# Altium footprint library TQFP_PFB.PcbLib: 3 footprints
Each footprint in its own frame and in the unit in brackets; x right, y up, seen from the top. Pads: shape width x height; smd on the part's side, far side on the other; paste and mask are expansions set on the pad; w line width, h text height; cw(c..) or ccw(c..) is an arc to the next point about the centre after c.
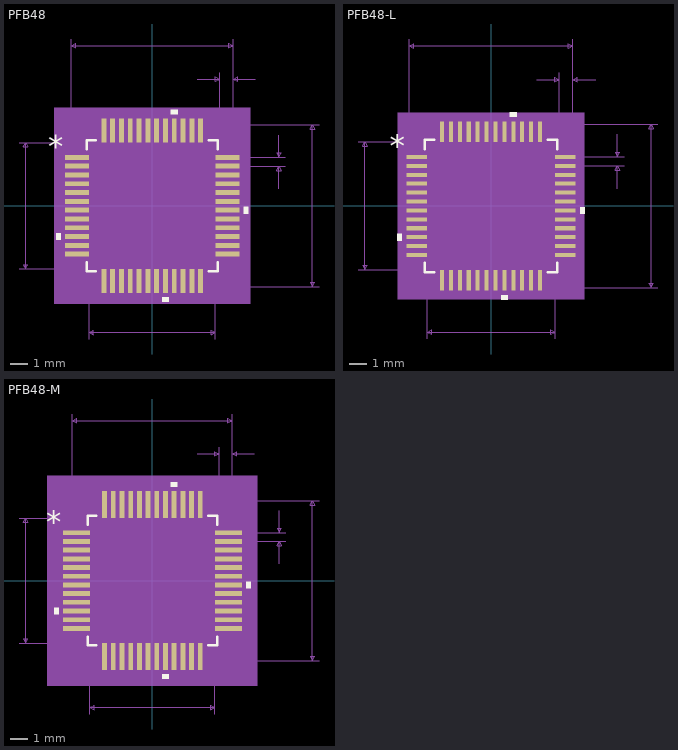
[diagram p0: the footprints below, top view; thin cyan lines are the x and y axes]

## PFB48 [mm]
pads (48):
  rect 1.353x0.279 smd paste+0 mask+0: 1(-4.271,2.75) 2(-4.271,2.25) 3(-4.271,1.75) 4(-4.271,1.25) 5(-4.271,0.75) 6(-4.271,0.25) 7(-4.271,-0.25) 8(-4.271,-0.75) 9(-4.271,-1.25) 10(-4.271,-1.75) 11(-4.271,-2.25) 12(-4.271,-2.75) 25(4.271,-2.75) 26(4.271,-2.25) 27(4.271,-1.75) 28(4.271,-1.25) 29(4.271,-0.75) 30(4.271,-0.25) 31(4.271,0.25) 32(4.271,0.75) 33(4.271,1.25) 34(4.271,1.75) 35(4.271,2.25) 36(4.271,2.75)
  rect 0.279x1.353 smd paste+0 mask+0: 13(-2.75,-4.271) 14(-2.25,-4.271) 15(-1.75,-4.271) 16(-1.25,-4.271) 17(-0.75,-4.271) 18(-0.25,-4.271) 19(0.25,-4.271) 20(0.75,-4.271) 21(1.25,-4.271) 22(1.75,-4.271) 23(2.25,-4.271) 24(2.75,-4.271) 37(2.75,4.271) 38(2.25,4.271) 39(1.75,4.271) 40(1.25,4.271) 41(0.75,4.271) 42(0.25,4.271) 43(-0.25,4.271) 44(-0.75,4.271) 45(-1.25,4.271) 46(-1.75,4.271) 47(-2.25,4.271) 48(-2.75,4.271)
Top Overlay:
  region: -5.201,-1.559 -5.455,-1.559 -5.455,-1.94 -5.201,-1.94
  region: 0.941,-5.201 0.56,-5.201 0.56,-5.455 0.941,-5.455
  region: 5.201,-0.059 5.455,-0.059 5.455,-0.44 5.201,-0.44
  region: 1.441,5.201 1.06,5.201 1.06,5.455 1.441,5.455
  lines w0.152: -3.721,-3.222 -3.721,-3.721 -3.222,-3.721 ; -3.721,3.222 -3.721,3.721 -3.222,3.721 ; 3.222,-3.721 3.721,-3.721 3.721,-3.222 ; 3.222,3.721 3.721,3.721 3.721,3.222
  text "*" at -5.9,2.746 h1.27
Mechanical 5:
  region: 5.582,-5.582 -5.582,-5.582 -5.582,5.582 5.582,5.582
Mechanical 7:
  lines w0.025: -7.573,-3.594 -2.75,-3.594 ; -7.573,3.594 -2.75,3.594 ; -4.597,2.75 -4.597,9.478 ; -3.594,-7.573 -3.594,-2.75 ; 2.565,7.192 3.835,7.192 ; 2.75,-4.597 9.478,-4.597 ; 2.75,4.597 9.478,4.597 ; 3.594,-7.573 3.594,-2.75 ; 3.835,2.75 3.835,7.573 ; 4.271,2.25 7.573,2.25 ; 4.271,2.75 7.573,2.75 ; 4.597,7.573 4.597,2.75 4.597,9.478 ; 5.867,7.192 4.597,7.192 ; 7.192,0.98 7.192,2.25 ; 7.192,4.02 7.192,2.75 ; -7.192,-3.594 -7.192,3.594 ; -7.192,-3.594 -7.319,-3.34 -7.065,-3.34 -7.192,-3.594 ; -7.192,3.594 -7.319,3.34 -7.065,3.34 -7.192,3.594 ; -4.597,9.097 4.597,9.097 ; -4.597,9.097 -4.343,9.224 -4.343,8.97 -4.597,9.097 ; -3.594,-7.192 3.594,-7.192 ; -3.594,-7.192 -3.34,-7.065 -3.34,-7.319 -3.594,-7.192 ; 3.594,-7.192 3.34,-7.065 3.34,-7.319 3.594,-7.192 ; 3.835,7.192 3.581,7.319 3.581,7.065 3.835,7.192 ; 4.597,7.192 4.851,7.319 4.851,7.065 4.597,7.192 ; 4.597,9.097 4.343,9.224 4.343,8.97 4.597,9.097 ; 7.192,2.25 7.065,1.996 7.319,1.996 7.192,2.25 ; 7.192,2.75 7.065,3.004 7.319,3.004 7.192,2.75 ; 9.097,-4.597 9.097,4.597 ; 9.097,-4.597 8.97,-4.343 9.224,-4.343 9.097,-4.597 ; 9.097,4.597 8.97,4.343 9.224,4.343 9.097,4.597
  text "Default Horiz Padstyle: r28_135" at -9.842,-11.002 h1.27
  text "Default Vert Padstyle: r28_135" at -9.525,-12.526 h1.27
  text "Alt 1 Padstyle: b152_229h76" at -8.572,-17.098 h1.27
  text "Alt 2 Padstyle: b229_152h76" at -8.572,-18.622 h1.27
  text "0.02in/0.5mm" at 7.7,2.183 h0.64
  text "0.03in/0.762mm" at 1.994,7.7 h0.64
  text "0.362in/9.195mm" at -2.381,9.605 h0.64
  text "0.283in/7.188mm" at -2.381,-8.335 h0.64
  text "0.283in/7.188mm" at -12.462,-0.318 h0.64
  text "0.362in/9.195mm" at 9.605,-0.318 h0.64
Mechanical 13:
  drawing of 197 lines, arcs and shapes, not listed
  text "*" at -3.531,2.365 h1.27
Mechanical 15:
  region: -3.144,-3.848 -3.848,-3.848 -3.848,-3.144 -5.201,-3.144 -5.201,3.144 -3.848,3.144 -3.848,3.848 -3.144,3.848 -3.144,5.201 3.144,5.201 3.144,3.848 3.848,3.848 3.848,3.144 5.201,3.144 5.201,-3.144 3.848,-3.144 3.848,-3.848 3.144,-3.848 3.144,-5.201 -3.144,-5.201
  lines w0.152: -5.201,-3.144 -3.848,-3.144 -3.848,-3.848 -3.144,-3.848 -3.144,-5.201 3.144,-5.201 3.144,-3.848 3.848,-3.848 3.848,-3.144 5.201,-3.144 5.201,3.144 3.848,3.144 3.848,3.848 3.144,3.848 3.144,5.201 -3.144,5.201 -3.144,3.848 -3.848,3.848 -3.848,3.144 -5.201,3.144 -5.201,-3.144
3D body "TQFP_PFB48A.stp": height 1.04, standoff -0.03, extent -4.5,-4.5 4.5,4.5

## PFB48-L [mm]
pads (48):
  rect 1.153x0.229 smd paste+0 mask+0: 1(-4.171,2.75) 2(-4.171,2.25) 3(-4.171,1.75) 4(-4.171,1.25) 5(-4.171,0.75) 6(-4.171,0.25) 7(-4.171,-0.25) 8(-4.171,-0.75) 9(-4.171,-1.25) 10(-4.171,-1.75) 11(-4.171,-2.25) 12(-4.171,-2.75) 25(4.171,-2.75) 26(4.171,-2.25) 27(4.171,-1.75) 28(4.171,-1.25) 29(4.171,-0.75) 30(4.171,-0.25) 31(4.171,0.25) 32(4.171,0.75) 33(4.171,1.25) 34(4.171,1.75) 35(4.171,2.25) 36(4.171,2.75)
  rect 0.229x1.153 smd paste+0 mask+0: 13(-2.75,-4.171) 14(-2.25,-4.171) 15(-1.75,-4.171) 16(-1.25,-4.171) 17(-0.75,-4.171) 18(-0.25,-4.171) 19(0.25,-4.171) 20(0.75,-4.171) 21(1.25,-4.171) 22(1.75,-4.171) 23(2.25,-4.171) 24(2.75,-4.171) 37(2.75,4.171) 38(2.25,4.171) 39(1.75,4.171) 40(1.25,4.171) 41(0.75,4.171) 42(0.25,4.171) 43(-0.25,4.171) 44(-0.75,4.171) 45(-1.25,4.171) 46(-1.75,4.171) 47(-2.25,4.171) 48(-2.75,4.171)
Top Overlay:
  region: -5.001,-1.559 -5.255,-1.559 -5.255,-1.94 -5.001,-1.94
  region: 0.941,-5.001 0.56,-5.001 0.56,-5.255 0.941,-5.255
  region: 5.001,-0.059 5.255,-0.059 5.255,-0.44 5.001,-0.44
  region: 1.441,5.001 1.06,5.001 1.06,5.255 1.441,5.255
  lines w0.152: -3.721,-3.197 -3.721,-3.721 -3.197,-3.721 ; -3.721,3.197 -3.721,3.721 -3.197,3.721 ; 3.197,-3.721 3.721,-3.721 3.721,-3.197 ; 3.197,3.721 3.721,3.721 3.721,3.197
  text "*" at -5.7,2.746 h1.27
Mechanical 5:
  region: 5.23,-5.23 -5.23,-5.23 -5.23,5.23 5.23,5.23
Mechanical 7:
  lines w0.025: -7.473,-3.594 -2.75,-3.594 ; -7.473,3.594 -2.75,3.594 ; -4.597,2.75 -4.597,9.378 ; -3.594,-7.473 -3.594,-2.75 ; 2.565,7.092 3.835,7.092 ; 2.75,-4.597 9.378,-4.597 ; 2.75,4.597 9.378,4.597 ; 3.594,-7.473 3.594,-2.75 ; 3.835,2.75 3.835,7.473 ; 4.171,2.25 7.473,2.25 ; 4.171,2.75 7.473,2.75 ; 4.597,7.473 4.597,2.75 4.597,9.378 ; 5.867,7.092 4.597,7.092 ; 7.092,0.98 7.092,2.25 ; 7.092,4.02 7.092,2.75 ; -7.092,-3.594 -7.092,3.594 ; -7.092,-3.594 -7.219,-3.34 -6.965,-3.34 -7.092,-3.594 ; -7.092,3.594 -7.219,3.34 -6.965,3.34 -7.092,3.594 ; -4.597,8.997 4.597,8.997 ; -4.597,8.997 -4.343,9.124 -4.343,8.87 -4.597,8.997 ; -3.594,-7.092 3.594,-7.092 ; -3.594,-7.092 -3.34,-6.965 -3.34,-7.219 -3.594,-7.092 ; 3.594,-7.092 3.34,-6.965 3.34,-7.219 3.594,-7.092 ; 3.835,7.092 3.581,7.219 3.581,6.965 3.835,7.092 ; 4.597,7.092 4.851,7.219 4.851,6.965 4.597,7.092 ; 4.597,8.997 4.343,9.124 4.343,8.87 4.597,8.997 ; 7.092,2.25 6.965,1.996 7.219,1.996 7.092,2.25 ; 7.092,2.75 6.965,3.004 7.219,3.004 7.092,2.75 ; 8.997,-4.597 8.997,4.597 ; 8.997,-4.597 8.87,-4.343 9.124,-4.343 8.997,-4.597 ; 8.997,4.597 8.87,4.343 9.124,4.343 8.997,4.597
  text "Default Horiz Padstyle: r23_115" at -9.842,-10.902 h1.27
  text "Default Vert Padstyle: r23_115" at -9.525,-12.426 h1.27
  text "Alt 1 Padstyle: b152_229h76" at -8.572,-16.998 h1.27
  text "Alt 2 Padstyle: b229_152h76" at -8.572,-18.522 h1.27
  text "0.02in/0.5mm" at 7.6,2.183 h0.64
  text "0.03in/0.762mm" at 1.994,7.6 h0.64
  text "0.362in/9.195mm" at -2.381,9.505 h0.64
  text "0.283in/7.188mm" at -2.381,-8.235 h0.64
  text "0.283in/7.188mm" at -12.362,-0.318 h0.64
  text "0.362in/9.195mm" at 9.505,-0.318 h0.64
Mechanical 13:
  drawing of 197 lines, arcs and shapes, not listed
  text "*" at -3.531,2.365 h1.27
Mechanical 15:
  region: -2.966,-3.696 -3.696,-3.696 -3.696,-2.966 -4.849,-2.966 -4.849,2.966 -3.696,2.966 -3.696,3.696 -2.966,3.696 -2.966,4.849 2.966,4.849 2.966,3.696 3.696,3.696 3.696,2.966 4.849,2.966 4.849,-2.966 3.696,-2.966 3.696,-3.696 2.966,-3.696 2.966,-4.849 -2.966,-4.849
  lines w0.152: -4.849,-2.966 -3.696,-2.966 -3.696,-3.696 -2.966,-3.696 -2.966,-4.849 2.966,-4.849 2.966,-3.696 3.696,-3.696 3.696,-2.966 4.849,-2.966 4.849,2.966 3.696,2.966 3.696,3.696 2.966,3.696 2.966,4.849 -2.966,4.849 -2.966,3.696 -3.696,3.696 -3.696,2.966 -4.849,2.966 -4.849,-2.966
3D body: height 0.25, standoff 0, extent 0,0 0.254,0.254
3D body "TQFP_PFB48A.stp": height 1.04, standoff -0.03, extent -4.5,-4.5 4.5,4.5

## PFB48-M [mm]
pads (48):
  rect 1.553x0.279 smd paste+0 mask+0: 1(-4.371,2.75) 2(-4.371,2.25) 3(-4.371,1.75) 4(-4.371,1.25) 5(-4.371,0.75) 6(-4.371,0.25) 7(-4.371,-0.25) 8(-4.371,-0.75) 9(-4.371,-1.25) 10(-4.371,-1.75) 11(-4.371,-2.25) 12(-4.371,-2.75) 25(4.371,-2.75) 26(4.371,-2.25) 27(4.371,-1.75) 28(4.371,-1.25) 29(4.371,-0.75) 30(4.371,-0.25) 31(4.371,0.25) 32(4.371,0.75) 33(4.371,1.25) 34(4.371,1.75) 35(4.371,2.25) 36(4.371,2.75)
  rect 0.279x1.553 smd paste+0 mask+0: 13(-2.75,-4.371) 14(-2.25,-4.371) 15(-1.75,-4.371) 16(-1.25,-4.371) 17(-0.75,-4.371) 18(-0.25,-4.371) 19(0.25,-4.371) 20(0.75,-4.371) 21(1.25,-4.371) 22(1.75,-4.371) 23(2.25,-4.371) 24(2.75,-4.371) 37(2.75,4.371) 38(2.25,4.371) 39(1.75,4.371) 40(1.25,4.371) 41(0.75,4.371) 42(0.25,4.371) 43(-0.25,4.371) 44(-0.75,4.371) 45(-1.25,4.371) 46(-1.75,4.371) 47(-2.25,4.371) 48(-2.75,4.371)
Top Overlay:
  region: -5.401,-1.559 -5.655,-1.559 -5.655,-1.94 -5.401,-1.94
  region: 0.941,-5.401 0.56,-5.401 0.56,-5.655 0.941,-5.655
  region: 5.401,-0.059 5.655,-0.059 5.655,-0.44 5.401,-0.44
  region: 1.441,5.401 1.06,5.401 1.06,5.655 1.441,5.655
  lines w0.152: -3.721,-3.222 -3.721,-3.721 -3.222,-3.721 ; -3.721,3.222 -3.721,3.721 -3.222,3.721 ; 3.222,-3.721 3.721,-3.721 3.721,-3.222 ; 3.222,3.721 3.721,3.721 3.721,3.222
  text "*" at -6.1,2.746 h1.27
Mechanical 5:
  region: 6.036,-6.036 -6.036,-6.036 -6.036,6.036 6.036,6.036
Mechanical 7:
  lines w0.025: -7.673,-3.594 -2.75,-3.594 ; -7.673,3.594 -2.75,3.594 ; -4.597,2.75 -4.597,9.578 ; -3.594,-7.673 -3.594,-2.75 ; 2.565,7.292 3.835,7.292 ; 2.75,-4.597 9.578,-4.597 ; 2.75,4.597 9.578,4.597 ; 3.594,-7.673 3.594,-2.75 ; 3.835,2.75 3.835,7.673 ; 4.371,2.25 7.673,2.25 ; 4.371,2.75 7.673,2.75 ; 4.597,7.673 4.597,2.75 4.597,9.578 ; 5.867,7.292 4.597,7.292 ; 7.292,0.98 7.292,2.25 ; 7.292,4.02 7.292,2.75 ; -7.292,-3.594 -7.292,3.594 ; -7.292,-3.594 -7.419,-3.34 -7.165,-3.34 -7.292,-3.594 ; -7.292,3.594 -7.419,3.34 -7.165,3.34 -7.292,3.594 ; -4.597,9.197 4.597,9.197 ; -4.597,9.197 -4.343,9.324 -4.343,9.07 -4.597,9.197 ; -3.594,-7.292 3.594,-7.292 ; -3.594,-7.292 -3.34,-7.165 -3.34,-7.419 -3.594,-7.292 ; 3.594,-7.292 3.34,-7.165 3.34,-7.419 3.594,-7.292 ; 3.835,7.292 3.581,7.419 3.581,7.165 3.835,7.292 ; 4.597,7.292 4.851,7.419 4.851,7.165 4.597,7.292 ; 4.597,9.197 4.343,9.324 4.343,9.07 4.597,9.197 ; 7.292,2.25 7.165,1.996 7.419,1.996 7.292,2.25 ; 7.292,2.75 7.165,3.004 7.419,3.004 7.292,2.75 ; 9.197,-4.597 9.197,4.597 ; 9.197,-4.597 9.07,-4.343 9.324,-4.343 9.197,-4.597 ; 9.197,4.597 9.07,4.343 9.324,4.343 9.197,4.597
  text "Default Horiz Padstyle: r28_155" at -9.842,-11.102 h1.27
  text "Default Vert Padstyle: r28_155" at -9.525,-12.626 h1.27
  text "Alt 1 Padstyle: b152_229h76" at -8.572,-17.198 h1.27
  text "Alt 2 Padstyle: b229_152h76" at -8.572,-18.722 h1.27
  text "0.02in/0.5mm" at 7.8,2.183 h0.64
  text "0.03in/0.762mm" at 1.994,7.8 h0.64
  text "0.362in/9.195mm" at -2.381,9.705 h0.64
  text "0.283in/7.188mm" at -2.381,-8.435 h0.64
  text "0.283in/7.188mm" at -12.562,-0.318 h0.64
  text "0.362in/9.195mm" at 9.705,-0.318 h0.64
Mechanical 13:
  drawing of 197 lines, arcs and shapes, not listed
  text "*" at -3.531,2.365 h1.27
Mechanical 15:
  region: -3.398,-4.102 -4.102,-4.102 -4.102,-3.398 -5.655,-3.398 -5.655,3.398 -4.102,3.398 -4.102,4.102 -3.398,4.102 -3.398,5.655 3.398,5.655 3.398,4.102 4.102,4.102 4.102,3.398 5.655,3.398 5.655,-3.398 4.102,-3.398 4.102,-4.102 3.398,-4.102 3.398,-5.655 -3.398,-5.655
  lines w0.152: -5.655,-3.398 -4.102,-3.398 -4.102,-4.102 -3.398,-4.102 -3.398,-5.655 3.398,-5.655 3.398,-4.102 4.102,-4.102 4.102,-3.398 5.655,-3.398 5.655,3.398 4.102,3.398 4.102,4.102 3.398,4.102 3.398,5.655 -3.398,5.655 -3.398,4.102 -4.102,4.102 -4.102,3.398 -5.655,3.398 -5.655,-3.398
3D body: height 0.25, standoff 0, extent 0,0 0.254,0.254
3D body "TQFP_PFB48A.stp": height 1.04, standoff -0.03, extent -4.5,-4.5 4.5,4.5